# EAGLE library part SAMTEC-SFMH110 (library Traficon)
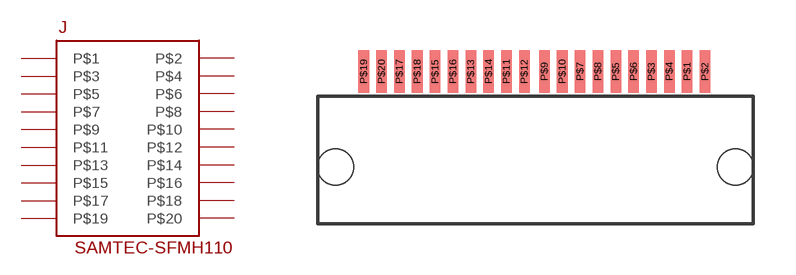
[diagram p160: symbol with the pads of SAMTEC-SFMH110; footprint SAMTEC-SFMH110]

Designator prefix J

## SAMTEC-SFMH110  [SAMTEC-SFMH110]
P$1  P$1
P$2  P$2
P$3  P$3
P$4  P$4
P$5  P$5
P$6  P$6
P$7  P$7
P$8  P$8
P$9  P$9
P$10  P$10
P$11  P$11
P$12  P$12
P$13  P$13
P$14  P$14
P$15  P$15
P$16  P$16
P$17  P$17
P$18  P$18
P$19  P$19
P$20  P$20

## Footprint SAMTEC-SFMH110 (pad centres in mm)
smd 0.38 x 1.52: P$1 5.44,5.46; P$2 6.08,5.46; P$3 4.16,5.46; P$4 4.8,5.46; P$5 2.88,5.46; P$6 3.52,5.46; P$7 1.6,5.46; P$8 2.24,5.46; P$9 0.32,5.46; P$10 0.96,5.46; P$11 -1.04,5.46; P$12 -0.4,5.46; P$13 -2.32,5.46; P$14 -1.68,5.46; P$15 -3.6,5.46; P$16 -2.96,5.46; P$17 -4.88,5.46; P$18 -4.24,5.46; P$19 -6.16,5.46; P$20 -5.52,5.46
hole 1.3 at -7.175,2.03
hole 1.3 at 7.175,2.03